# Altium schematic symbol library SCH_Lib.SchLib: 3 symbols
Pins are listed as number, name and electrical type; pins without a type are passive.

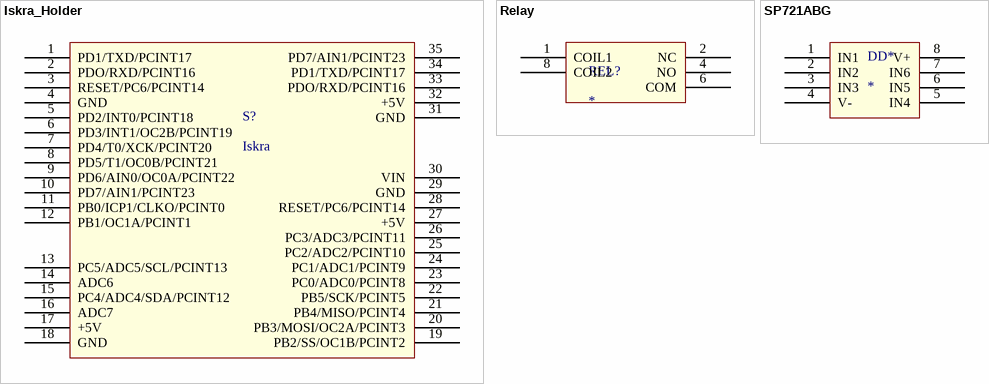
[diagram p0: symbols Iskra_Holder to SP721ABG]

## Iskra_Holder
designator S?, comment Iskra
footprint Iskra
pins: 1 PD1/TXD/PCINT17, 2 PDO/RXD/PCINT16, 3 RESET/PC6/PCINT14, 4 GND, 5 PD2/INT0/PCINT18, 6 PD3/INT1/OC2B/PCINT19, 7 PD4/T0/XCK/PCINT20, 8 PD5/T1/OC0B/PCINT21, 9 PD6/AIN0/OC0A/PCINT22, 10 PD7/AIN1/PCINT23, 11 PB0/ICP1/CLKO/PCINT0, 12 PB1/OC1A/PCINT1, 13 PC5/ADC5/SCL/PCINT13, 14 ADC6, 15 PC4/ADC4/SDA/PCINT12, 16 ADC7, 17 +5V, 18 GND, 19 PB2/SS/OC1B/PCINT2, 20 PB3/MOSI/OC2A/PCINT3, 21 PB4/MISO/PCINT4, 22 PB5/SCK/PCINT5, 23 PC0/ADC0/PCINT8, 24 PC1/ADC1/PCINT9, 25 PC2/ADC2/PCINT10, 26 PC3/ADC3/PCINT11, 27 +5V, 28 RESET/PC6/PCINT14, 29 GND, 30 VIN, 31 GND, 32 +5V, 33 PDO/RXD/PCINT16, 34 PD1/TXD/PCINT17, 35 PD7/AIN1/PCINT23

## Relay
designator REL?
footprint RP78602
pins: 1 COIL1, 2 NC, 4 NO, 6 COM, 8 COIL2

## SP721ABG
designator DD*
footprint SOIC127P594X363-8N (SOIC, 1.27mm pitch; 8  pin, 3.91mm W X 4.88mm L, IPC Medium Density)
pins: 1 IN1, 2 IN2, 3 IN3, 4 V-, 5 IN4, 6 IN5, 7 IN6, 8 V+